# Altium schematic symbol library DCSupplyHubLib.SchLib: 133 symbols (part 1 of 2)
Pins are listed as number, name and electrical type; pins without a type are passive.

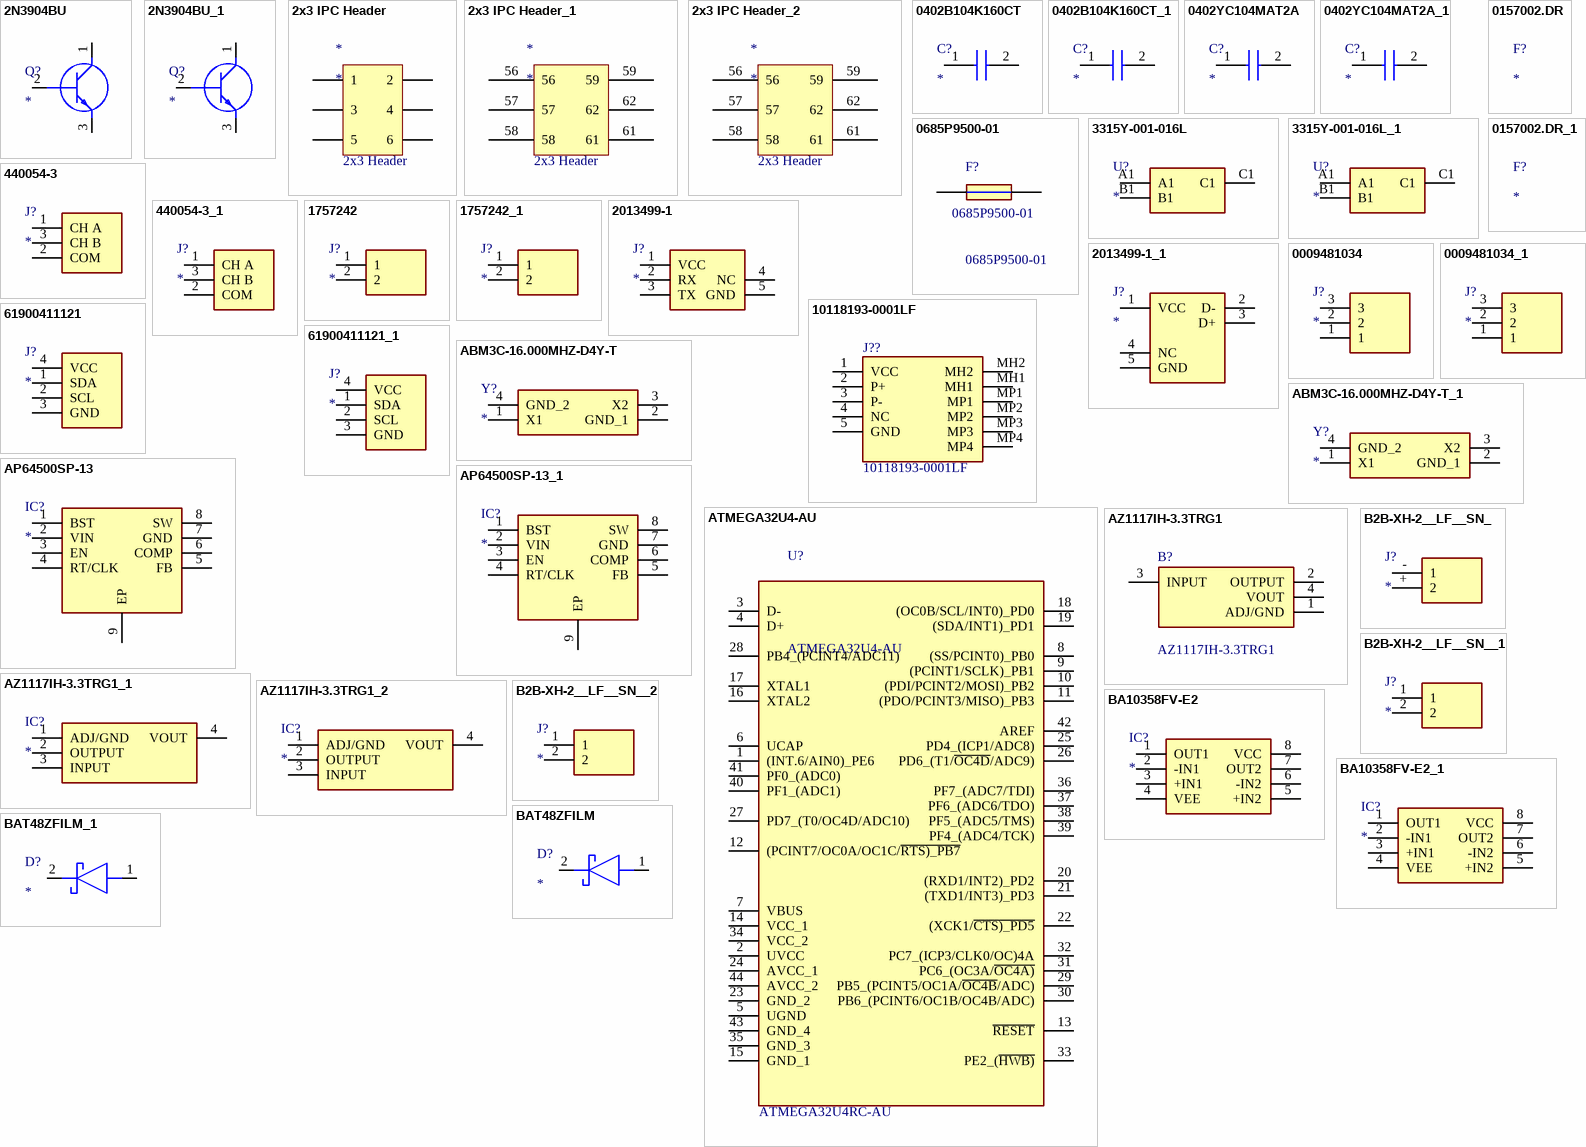
[diagram p0: symbols 2N3904BU to BAT48ZFILM_1]

## 2N3904BU
designator Q?
Transistor BJT NPN; Manufacturer_Name: onsemi; Manufacturer_Part_Number: 2N3904BU; Datasheet Link: http://www.onsemi.com/pub/Collateral/2N3904-D.pdf; Height: 5.33mm; Mouser Part Number: 512-2N3904BU; Mouser Price/Stock: https://www.mouser.co.uk/ProductDetail/onsemi-Fairchild/2N3904BU?qs=or4AE2qAS%252Bd0Jdpn%2F8ktKg%3D%3D; Arrow Part Number: 2N3904BU; Arrow Price/Stock: https://www.arrow.com/en/products/2n3904bu/on-semiconductor?region=europe
footprint LM431ACZ
pins: 1 C, 2 B, 3 E

## 2N3904BU_1
designator Q?
Transistor BJT NPN; Manufacturer_Name: onsemi; Manufacturer_Part_Number: 2N3904BU; Datasheet Link: http://www.onsemi.com/pub/Collateral/2N3904-D.pdf; Height: 5.33mm; Mouser Part Number: 512-2N3904BU; Mouser Price/Stock: https://www.mouser.co.uk/ProductDetail/onsemi-Fairchild/2N3904BU?qs=or4AE2qAS%252Bd0Jdpn%2F8ktKg%3D%3D; Arrow Part Number: 2N3904BU; Arrow Price/Stock: https://www.arrow.com/en/products/2n3904bu/on-semiconductor?region=europe
footprint LM431ACZ
pins: 1 C, 2 B, 3 E

## 2x3 IPC Header
designator *
pins: ?1 1, ?2 3, ?3 5, ?4 2, ?5 6, ?6 4
text: 2x3 Header

## 2x3 IPC Header_1
designator *
pins: 56, 57, 58, 59, 61, 62
text: 2x3 Header

## 2x3 IPC Header_2
designator *
pins: 56, 57, 58, 59, 61, 62
text: 2x3 Header

## 0402B104K160CT
designator C?
Capacitor; Manufacturer_Name: Walsin Technology Corporation; Manufacturer_Part_Number: 0402B104K160CT; Datasheet Link: https://componentsearchengine.com/Datasheets/2/0402B104K160CT.pdf; Height: 0.55mm; Mouser Part Number: 791-0402B104K160CT; Mouser Price/Stock: https://www.mouser.co.uk/ProductDetail/Walsin/0402B104K160CT?qs=fIkAfuXiAQJ1PS4dYXnTSQ%3D%3D
footprint CAPC1005X55N
pins: 1, 2

## 0402B104K160CT_1
designator C?
Capacitor; Manufacturer_Name: Walsin Technology Corporation; Manufacturer_Part_Number: 0402B104K160CT; Datasheet Link: https://componentsearchengine.com/Datasheets/2/0402B104K160CT.pdf; Height: 0.55mm; Mouser Part Number: 791-0402B104K160CT; Mouser Price/Stock: https://www.mouser.co.uk/ProductDetail/Walsin/0402B104K160CT?qs=fIkAfuXiAQJ1PS4dYXnTSQ%3D%3D
footprint CAPC1005X55N
pins: 1, 2

## 0402YC104MAT2A
designator C?
Capacitor; Manufacturer_Name: AVX; Manufacturer_Part_Number: 0402YC104MAT2A; Datasheet Link: http://www.mouser.com/catalog/supplier/library/pdf/AVXSurfaceMountCeramic.pdf; Height: 0.56mm; Mouser Part Number: 581-0402YC104MAT2A; Mouser Price/Stock: https://www.mouser.co.uk/ProductDetail/AVX/0402YC104MAT2A?qs=O2%2FeDh0sX9yiCaLwpXy1bw%3D%3D
footprint CAPC1005X56N
pins: 1, 2

## 0402YC104MAT2A_1
designator C?
Capacitor; Manufacturer_Name: AVX; Manufacturer_Part_Number: 0402YC104MAT2A; Datasheet Link: http://www.mouser.com/catalog/supplier/library/pdf/AVXSurfaceMountCeramic.pdf; Height: 0.56mm; Mouser Part Number: 581-0402YC104MAT2A; Mouser Price/Stock: https://www.mouser.co.uk/ProductDetail/AVX/0402YC104MAT2A?qs=O2%2FeDh0sX9yiCaLwpXy1bw%3D%3D
footprint CAPC1005X56N
pins: 1, 2

## 0685P9500-01
designator F?
Fuse Chip Fast Acting 50A 32V SMD Solder Pad 1206 3.2 X 1.58 X 0.63mm Ceramic T/R; Manufacturer_Name: Bel Circuit Protection; Geometry.Height: 0.83mm; Manufacturer_Part_Number: 0685P9500-01; Mouser Part Number: *; Mouser Price/Stock: *; Arrow Part Number: 0685P9500-01; Arrow Price/Stock: https://www.arrow.com/en/products/0685p9500-01/bel-group?region=europe; Datasheet Link: https://www.arrow.com/en/products/0685p9500-01/bel-group
footprint FUSC3216X83N
pins: 1, 2

## 3315Y-001-016L
designator U?
Undefined or Miscellaneous; Manufacturer_Name: Bourns; Manufacturer_Part_Number: 3315Y-001-016L; Datasheet Link: https://www.bourns.com/docs/Product-Datasheets/3315.pdf; Height: 13.34mm; Mouser Part Number: 652-3315Y-001-016L; Mouser Price/Stock: https://www.mouser.com/Search/Refine.aspx?Keyword=652-3315Y-001-016L; Arrow Part Number: 3315Y-001-016L; Arrow Price/Stock: https://www.arrow.com/en/products/3315y-001-016l/bourns
footprint 3315Y001016L
pins: A1, B1, C1

## 3315Y-001-016L_1
designator U?
Undefined or Miscellaneous; Manufacturer_Name: Bourns; Manufacturer_Part_Number: 3315Y-001-016L; Datasheet Link: https://www.bourns.com/docs/Product-Datasheets/3315.pdf; Height: 13.34mm; Mouser Part Number: 652-3315Y-001-016L; Mouser Price/Stock: https://www.mouser.com/Search/Refine.aspx?Keyword=652-3315Y-001-016L; Arrow Part Number: 3315Y-001-016L; Arrow Price/Stock: https://www.arrow.com/en/products/3315y-001-016l/bourns
footprint 3315Y001016L
pins: A1, B1, C1

## 0157002.DR
designator F?
Fuse; Manufacturer_Name: LITTELFUSE; Manufacturer_Part_Number: 0157002.DR; Datasheet Link: https://www.littelfuse.com/products/fuse-blocks-fuseholders-and-fuse-accessories/fuse-clips/~/media/electronics/datasheets/fuses/littelfuse_fuse_157_datasheet.pdf.pdf; Height: 4.03mm
footprint 0157002DR

## 0157002.DR_1
designator F?
Fuse; Manufacturer_Name: LITTELFUSE; Manufacturer_Part_Number: 0157002.DR; Datasheet Link: https://www.littelfuse.com/products/fuse-blocks-fuseholders-and-fuse-accessories/fuse-clips/~/media/electronics/datasheets/fuses/littelfuse_fuse_157_datasheet.pdf.pdf; Height: 4.03mm
footprint 0157002DR

## 440054-3
designator J?
Connector; Manufacturer_Name: TE Connectivity; Manufacturer_Part_Number: 440054-3; Datasheet Link: https://www.te.com/commerce/DocumentDelivery/DDEController?Action=srchrtrv&DocNm=440054&DocType=Customer+Drawing&DocLang=English&DocFormat=pdf&PartCntxt=440054-3; Height: 6.35mm; Mouser Part Number: 571-440054-3; Mouser Price/Stock: https://www.mouser.co.uk/ProductDetail/TE-Connectivity/440054-3?qs=JFPmFzpscO5ATC%252BmN3ka1Q%3D%3D; Arrow Part Number: 440054-3; Arrow Price/Stock: https://www.arrow.com/en/products/440054-3/te-connectivity?region=nac
footprint SHDR3W50P0X200_1X3_800X470X635P
pins: 1 CH A, 2 COM, 3 CH B

## 440054-3_1
designator J?
Connector; Manufacturer_Name: TE Connectivity; Manufacturer_Part_Number: 440054-3; Datasheet Link: https://www.te.com/commerce/DocumentDelivery/DDEController?Action=srchrtrv&DocNm=440054&DocType=Customer+Drawing&DocLang=English&DocFormat=pdf&PartCntxt=440054-3; Height: 6.35mm; Mouser Part Number: 571-440054-3; Mouser Price/Stock: https://www.mouser.co.uk/ProductDetail/TE-Connectivity/440054-3?qs=JFPmFzpscO5ATC%252BmN3ka1Q%3D%3D; Arrow Part Number: 440054-3; Arrow Price/Stock: https://www.arrow.com/en/products/440054-3/te-connectivity?region=nac
footprint SHDR3W50P0X200_1X3_800X470X635P
pins: 1 CH A, 2 COM, 3 CH B

## 1757242
designator J?
Connector; Manufacturer_Name: Phoenix Contact; Manufacturer_Part_Number: 1757242; Datasheet Link: http://www.phoenixcontact.com/de/produkte/1757242/pdf; Height: 8.72mm; Mouser Part Number: 651-1757242; Mouser Price/Stock: https://www.mouser.co.uk/ProductDetail/Phoenix-Contact/1757242?qs=uD%2FdkN7XIa3Ejiz9qDxlzw%3D%3D; Arrow Part Number: 1757242; Arrow Price/Stock: https://www.arrow.com/en/products/1757242/phoenix-contact?region=nac
footprint 1757242
pins: 1, 2

## 1757242_1
designator J?
Connector; Manufacturer_Name: Phoenix Contact; Manufacturer_Part_Number: 1757242; Datasheet Link: http://www.phoenixcontact.com/de/produkte/1757242/pdf; Height: 8.72mm; Mouser Part Number: 651-1757242; Mouser Price/Stock: https://www.mouser.co.uk/ProductDetail/Phoenix-Contact/1757242?qs=uD%2FdkN7XIa3Ejiz9qDxlzw%3D%3D; Arrow Part Number: 1757242; Arrow Price/Stock: https://www.arrow.com/en/products/1757242/phoenix-contact?region=nac
footprint 1757242
pins: 1, 2

## 2013499-1
designator J?
Connector; Manufacturer_Name: TE Connectivity; Manufacturer_Part_Number: 2013499-1; Datasheet Link: http://www.te.com/commerce/DocumentDelivery/DDEController?Action=showdoc&DocId=Customer+Drawing%7F2013499%7FB2%7Fpdf%7FEnglish%7FENG_CD_2013499_B2.pdf%7F2013499-1; Mouser Part Number: 571-2013499-1; Mouser Price/Stock: https://www.mouser.co.uk/ProductDetail/TE-Connectivity/2013499-1?qs=TL6PIybY3BOLK37GbUYdng%3D%3D; Arrow Part Number: 2013499-1; Arrow Price/Stock: https://www.arrow.com/en/products/2013499-1/te-connectivity?region=nac
footprint 2013499-1
pins: 1 VCC, 2 RX, 3 TX, 4 NC, 5 GND

## 2013499-1_1
designator J?
Connector; Manufacturer_Name: TE Connectivity; Manufacturer_Part_Number: 2013499-1; Datasheet Link: http://www.te.com/commerce/DocumentDelivery/DDEController?Action=showdoc&DocId=Customer+Drawing%7F2013499%7FB2%7Fpdf%7FEnglish%7FENG_CD_2013499_B2.pdf%7F2013499-1; Mouser Part Number: 571-2013499-1; Mouser Price/Stock: https://www.mouser.co.uk/ProductDetail/TE-Connectivity/2013499-1?qs=TL6PIybY3BOLK37GbUYdng%3D%3D; Arrow Part Number: 2013499-1; Arrow Price/Stock: https://www.arrow.com/en/products/2013499-1/te-connectivity?region=nac; ComponentLink1Description: Datasheet; ComponentLink1URL: https://cdn.amphenol-cs.com/media/wysiwyg/files/documentation/datasheet/inputoutput/io_usb_micro.pdf
footprint 2013499-1
pins: 1 VCC, 2 D-, 3 D+, 4 NC, 5 GND

## 0009481034
designator J?
Connector; Manufacturer_Name: Molex; Manufacturer_Part_Number: 0009481034; Datasheet Link: https://www.molex.com/pdm_docs/sd/009481034_sd.pdf; Height: 12.17mm; Mouser Part Number: N/A; Mouser Price/Stock: https://www.mouser.co.uk/ProductDetail/Molex/0009481034?qs=kF4zOt4%2FK7VvgYpahOC8cQ%3D%3D
footprint 0009481034
pins: 1, 2, 3

## 0009481034_1
designator J?
Connector; Manufacturer_Name: Molex; Manufacturer_Part_Number: 0009481034; Datasheet Link: https://www.molex.com/pdm_docs/sd/009481034_sd.pdf; Height: 12.17mm; Mouser Part Number: N/A; Mouser Price/Stock: https://www.mouser.co.uk/ProductDetail/Molex/0009481034?qs=kF4zOt4%2FK7VvgYpahOC8cQ%3D%3D
footprint 0009481034
pins: 1, 2, 3

## 10118193-0001LF
designator J??
Connector; Manufacturer_Name: AMPHENOL COMMUNICATION SOLUTIONS; Datasheet Link: https://cdn.amphenol-icc.com/media/wysiwyg/files/drawing/10118193.pdf; Height: 3.3mm; Manufacturer_Part_Number: 10118193-0001LF
footprint 101181930001LF
pins: 1 VCC, 2 P+, 3 P-, 4 NC, 5 GND, MH1, MH2, MP1, MP2, MP3, MP4

## 61900411121
designator J?
Connector; Manufacturer_Name: Wurth Elektronik; Manufacturer_Part_Number: 61900411121; Datasheet Link: https://katalog.we-online.de/em/datasheet/6190xx11121.pdf; Height: 11.75mm; Mouser Part Number: 710-61900411121; Mouser Price/Stock: https://www.mouser.co.uk/ProductDetail/Wurth-Elektronik/61900411121?qs=W%252B2sBeLta1Z79%252BA04MeSCQ%3D%3D
footprint SHDR4W64P0X254_1X4_1020X580X1175P
pins: 1 SDA, 2 SCL, 3 GND, 4 VCC

## 61900411121_1
designator J?
Connector; Manufacturer_Name: Wurth Elektronik; Manufacturer_Part_Number: 61900411121; Datasheet Link: https://katalog.we-online.de/em/datasheet/6190xx11121.pdf; Height: 11.75mm; Mouser Part Number: 710-61900411121; Mouser Price/Stock: https://www.mouser.co.uk/ProductDetail/Wurth-Elektronik/61900411121?qs=W%252B2sBeLta1Z79%252BA04MeSCQ%3D%3D
footprint SHDR4W64P0X254_1X4_1020X580X1175P
pins: 1 SDA, 2 SCL, 3 GND, 4 VCC

## ABM3C-16.000MHZ-D4Y-T
designator Y?
Crystal or Oscillator; Manufacturer_Name: ABRACON; Manufacturer_Part_Number: ABM3C-16.000MHZ-D4Y-T; Datasheet Link: https://abracon.com/Resonators/ABM3C.pdf; Height: 1.3mm; Mouser Part Number: 815-ABM3C-16-D4YT; Mouser Price/Stock: https://www.mouser.co.uk/ProductDetail/ABRACON/ABM3C-16.000MHZ-D4Y-T?qs=hxOQwdLlgeqfhg9X8n9k8A%3D%3D; Arrow Part Number: ABM3C-16.000MHZ-D4Y-T; Arrow Price/Stock: https://www.arrow.com/en/products/abm3c-16.000mhz-d4y-t/abracon?region=nac
footprint ABM3C16000MHZD4YT
pins: 1 X1, 2 GND_1, 3 X2, 4 GND_2

## ABM3C-16.000MHZ-D4Y-T_1
designator Y?
Crystal or Oscillator; Manufacturer_Name: ABRACON; Manufacturer_Part_Number: ABM3C-16.000MHZ-D4Y-T; Datasheet Link: https://abracon.com/Resonators/ABM3C.pdf; Height: 1.3mm; Mouser Part Number: 815-ABM3C-16-D4YT; Mouser Price/Stock: https://www.mouser.co.uk/ProductDetail/ABRACON/ABM3C-16.000MHZ-D4Y-T?qs=hxOQwdLlgeqfhg9X8n9k8A%3D%3D; Arrow Part Number: ABM3C-16.000MHZ-D4Y-T; Arrow Price/Stock: https://www.arrow.com/en/products/abm3c-16.000mhz-d4y-t/abracon?region=nac
footprint ABM3C16000MHZD4YT
pins: 1 X1, 2 GND_1, 3 X2, 4 GND_2

## AP64500SP-13
designator IC?
Integrated Circuit; Manufacturer_Name: Diodes Inc.; Manufacturer_Part_Number: AP64500SP-13; Datasheet Link: https://www.diodes.com/assets/Datasheets/AP64500.pdf; Height: 1.63mm; Mouser Part Number: 621-AP64500SP-13; Mouser Price/Stock: https://www.mouser.co.uk/ProductDetail/Diodes-Incorporated/AP64500SP-13?qs=P1JMDcb91o4IZHHwLYiVQA%3D%3D; Arrow Part Number: AP64500SP-13; Arrow Price/Stock: https://www.arrow.com/en/products/ap64500sp-13/diodes-incorporated?region=nac
footprint SOIC127P600X163-9N
pins: 1 BST, 2 VIN, 3 EN, 4 RT/CLK, 5 FB, 6 COMP, 7 GND, 8 SW, 9 EP

## AP64500SP-13_1
designator IC?
Integrated Circuit; Manufacturer_Name: Diodes Inc.; Manufacturer_Part_Number: AP64500SP-13; Datasheet Link: https://www.diodes.com/assets/Datasheets/AP64500.pdf; Height: 1.63mm; Mouser Part Number: 621-AP64500SP-13; Mouser Price/Stock: https://www.mouser.co.uk/ProductDetail/Diodes-Incorporated/AP64500SP-13?qs=P1JMDcb91o4IZHHwLYiVQA%3D%3D; Arrow Part Number: AP64500SP-13; Arrow Price/Stock: https://www.arrow.com/en/products/ap64500sp-13/diodes-incorporated?region=nac
footprint SOIC127P600X163-9N
pins: 1 BST, 2 VIN, 3 EN, 4 RT/CLK, 5 FB, 6 COMP, 7 GND, 8 SW, 9 EP

## ATMEGA32U4-AU
designator U?
MCU AVR 32K FLASH 16MHZ 44-TQFP Atmel ATMEGA32U4-AU, 8bit AVR Microcontroller, 16MHz, 1 kB, 32 kB Flash, 44-Pin TQFP; Manufacturer_Name: Microchip; Geometry.Height: 1.2mm; Manufacturer_Part_Number: ATMEGA32U4-AU; Mouser Part Number: 556-ATMEGA32U4-AU; Mouser Price/Stock: https://www.mouser.co.uk/ProductDetail/Microchip-Technology/ATMEGA32U4-AU?qs=SSucg2PyLi7mKWjHIsNJ3w%3D%3D; Arrow Part Number: ATMEGA32U4-AU; Arrow Price/Stock: https://www.arrow.com/en/products/atmega32u4-au/microchip-technology?region=nac; Datasheet Link: http://www.atmel.com/images/atmel-7766-8-bit-avr-atmega16u4-32u4_summary.pdf; ComponentLink1Description: Datasheet; ComponentLink1URL: https://ww1.microchip.com/downloads/en/DeviceDoc/Atmel-7766-8-bit-AVR-ATmega16U4-32U4_Datasheet.pdf
footprint QFP80P1200X1200X120-44N
pins: 1 (INT.6/AIN0)_PE6, 2 UVCC, 3 D-, 4 D+, 5 UGND, 6 UCAP, 7 VBUS, 8 (SS/PCINT0)_PB0, 9 (PCINT1/SCLK)_PB1, 10 (PDI/PCINT2/MOSI)_PB2, 11 (PDO/PCINT3/MISO)_PB3, 12 (PCINT7/OC0A/OC1C/~{RTS)_PB7}, 13 ~{RESET}, 14 VCC_1, 15 GND_1, 16 XTAL2, 17 XTAL1, 18 (OC0B/SCL/INT0)_PD0, 19 (SDA/INT1)_PD1, 20 (RXD1/INT2)_PD2, 21 (TXD1/INT3)_PD3, 22 (XCK1/~{CTS)_PD5}, 23 GND_2, 24 AVCC_1, 25 PD4_(ICP1/ADC8), 26 PD6_(T1/~{OC4D}/ADC9), 27 PD7_(T0/OC4D/ADC10), 28 PB4_(PCINT4/ADC11), 29 PB5_(PCINT5/OC1A/~{OC4B}/ADC), 30 PB6_(PCINT6/OC1B/OC4B/ADC), 31 PC6_(OC3A/~{OC4A)}, 32 PC7_(ICP3/CLK0/OC)4A, 33 PE2_(~{HWB)}, 34 VCC_2, 35 GND_3, 36 PF7_(ADC7/TDI), 37 PF6_(ADC6/TDO), 38 PF5_(ADC5/TMS), 39 PF4_(ADC4/TCK), 40 PF1_(ADC1), 41 PF0_(ADC0), 42 AREF, 43 GND_4, 44 AVCC_2
text: ATMEGA32U4RC-AU

## AZ1117IH-3.3TRG1
designator B?
LDO Voltage Regulators LDO BJT HiCurr 1.35A 10Hz to 10KHz; Manufacturer_Name: Diodes Inc.; Geometry.Height: 1.8mm; Manufacturer_Part_Number: AZ1117IH-3.3TRG1; Mouser Part Number: 621-AZ1117IH-3.3TRG1; Mouser Price/Stock: https://www.mouser.co.uk/ProductDetail/Diodes-Incorporated/AZ1117IH-3.3TRG1?qs=cpo3%2FpBou2jnS4SxLgAVoA%3D%3D; Arrow Part Number: AZ1117IH-3.3TRG1; Arrow Price/Stock: https://www.arrow.com/en/products/az1117ih-3.3trg1/diodes-incorporated?region=nac; Datasheet Link: http://www.mouser.com/ds/2/115/AZ1117-776390.pdf
footprint SOT230P700X180-4N
pins: 1 ADJ/GND, 2 OUTPUT, 3 INPUT, 4 VOUT

## AZ1117IH-3.3TRG1_1
designator IC?
Integrated Circuit; Manufacturer_Name: Diodes Inc.; Manufacturer_Part_Number: AZ1117IH-3.3TRG1; Datasheet Link: http://www.mouser.com/ds/2/115/AZ1117-776390.pdf; Height: 1.8mm; Mouser Part Number: 621-AZ1117IH-3.3TRG1; Mouser Price/Stock: https://www.mouser.co.uk/ProductDetail/Diodes-Incorporated/AZ1117IH-3.3TRG1?qs=cpo3%2FpBou2jnS4SxLgAVoA%3D%3D; Arrow Part Number: AZ1117IH-3.3TRG1; Arrow Price/Stock: https://www.arrow.com/en/products/az1117ih-3.3trg1/diodes-incorporated?region=nac
footprint SOT230P700X180-4N
pins: 1 ADJ/GND, 2 OUTPUT, 3 INPUT, 4 VOUT

## AZ1117IH-3.3TRG1_2
designator IC?
Integrated Circuit; Manufacturer_Name: Diodes Inc.; Manufacturer_Part_Number: AZ1117IH-3.3TRG1; Datasheet Link: http://www.mouser.com/ds/2/115/AZ1117-776390.pdf; Height: 1.8mm; Mouser Part Number: 621-AZ1117IH-3.3TRG1; Mouser Price/Stock: https://www.mouser.co.uk/ProductDetail/Diodes-Incorporated/AZ1117IH-3.3TRG1?qs=cpo3%2FpBou2jnS4SxLgAVoA%3D%3D; Arrow Part Number: AZ1117IH-3.3TRG1; Arrow Price/Stock: https://www.arrow.com/en/products/az1117ih-3.3trg1/diodes-incorporated?region=nac
footprint SOT230P700X180-4N
pins: 1 ADJ/GND, 2 OUTPUT, 3 INPUT, 4 VOUT

## B2B-XH-2__LF__SN_
designator J?
Connector; Manufacturer_Name: JST (JAPAN SOLDERLESS TERMINALS); Manufacturer_Part_Number: B2B-XH-2 (LF)(SN); Datasheet Link: http://uk.rs-online.com/web/p/products/1755297; Height: 7mm; Arrow Part Number: B2B-XH-2 (LF)(SN); Arrow Price/Stock: https://www.arrow.com/en/products/b2b-xh-2-lf-sn/jst-manufacturing?region=europe
footprint B2BXH2LFSN
pins: + 2, - 1

## B2B-XH-2__LF__SN__1
designator J?
Connector; Manufacturer_Name: JST (JAPAN SOLDERLESS TERMINALS); Manufacturer_Part_Number: B2B-XH-2 (LF)(SN); Datasheet Link: http://uk.rs-online.com/web/p/products/1755297; Height: 7mm; Arrow Part Number: B2B-XH-2 (LF)(SN); Arrow Price/Stock: https://www.arrow.com/en/products/b2b-xh-2-lf-sn/jst-manufacturing?region=europe
footprint B2BXH2LFSN
pins: 1, 2

## B2B-XH-2__LF__SN__2
designator J?
Connector; Manufacturer_Name: JST (JAPAN SOLDERLESS TERMINALS); Manufacturer_Part_Number: B2B-XH-2 (LF)(SN); Datasheet Link: http://uk.rs-online.com/web/p/products/1755297; Height: 7mm; Arrow Part Number: B2B-XH-2 (LF)(SN); Arrow Price/Stock: https://www.arrow.com/en/products/b2b-xh-2-lf-sn/jst-manufacturing?region=europe
footprint B2BXH2LFSN
pins: 1, 2

## BA10358FV-E2
designator IC?
Integrated Circuit; Manufacturer_Name: ROHM Semiconductor; Manufacturer_Part_Number: BA10358FV-E2; Datasheet Link: http://rohmfs.rohm.com/en/products/databook/datasheet/ic/amp_linear/opamp/ba10358-e.pdf; Height: 1.35mm; Mouser Part Number: 755-BA10358FV-E2; Mouser Price/Stock: https://www.mouser.co.uk/ProductDetail/ROHM-Semiconductor/BA10358FV-E2?qs=4kLU8WoGk0vIfU2HGOTqYg%3D%3D
footprint SOP65P640X135-8N
pins: 1 OUT1, 2 -IN1, 3 +IN1, 4 VEE, 5 +IN2, 6 -IN2, 7 OUT2, 8 VCC

## BA10358FV-E2_1
designator IC?
Integrated Circuit; Manufacturer_Name: ROHM Semiconductor; Manufacturer_Part_Number: BA10358FV-E2; Datasheet Link: http://rohmfs.rohm.com/en/products/databook/datasheet/ic/amp_linear/opamp/ba10358-e.pdf; Height: 1.35mm; Mouser Part Number: 755-BA10358FV-E2; Mouser Price/Stock: https://www.mouser.co.uk/ProductDetail/ROHM-Semiconductor/BA10358FV-E2?qs=4kLU8WoGk0vIfU2HGOTqYg%3D%3D
footprint SOP65P640X135-8N
pins: 1 OUT1, 2 -IN1, 3 +IN1, 4 VEE, 5 +IN2, 6 -IN2, 7 OUT2, 8 VCC

## BAT48ZFILM
designator D?
Schottky Diode; Manufacturer_Name: STMicroelectronics; Manufacturer_Part_Number: BAT48ZFILM; Datasheet Link: https://altium.componentsearchengine.com/Datasheets/2/BAT48ZFILM.pdf; Height: 1.45mm; Mouser Part Number: 511-BAT48ZFILM; Mouser Price/Stock: https://www.mouser.co.uk/ProductDetail/STMicroelectronics/BAT48ZFILM?qs=jZi1jxfVU97drMZAC9JWhA%3D%3D; Arrow Part Number: BAT48ZFILM; Arrow Price/Stock: https://www.arrow.com/en/products/bat48zfilm/stmicroelectronics?region=europe
footprint BAT48ZFILM
pins: 1 A, 2 K

## BAT48ZFILM_1
designator D?
Schottky Diode; Manufacturer_Name: STMicroelectronics; Manufacturer_Part_Number: BAT48ZFILM; Datasheet Link: https://altium.componentsearchengine.com/Datasheets/2/BAT48ZFILM.pdf; Height: 1.45mm; Mouser Part Number: 511-BAT48ZFILM; Mouser Price/Stock: https://www.mouser.co.uk/ProductDetail/STMicroelectronics/BAT48ZFILM?qs=jZi1jxfVU97drMZAC9JWhA%3D%3D; Arrow Part Number: BAT48ZFILM; Arrow Price/Stock: https://www.arrow.com/en/products/bat48zfilm/stmicroelectronics?region=europe
footprint BAT48ZFILM
pins: 1 A, 2 K

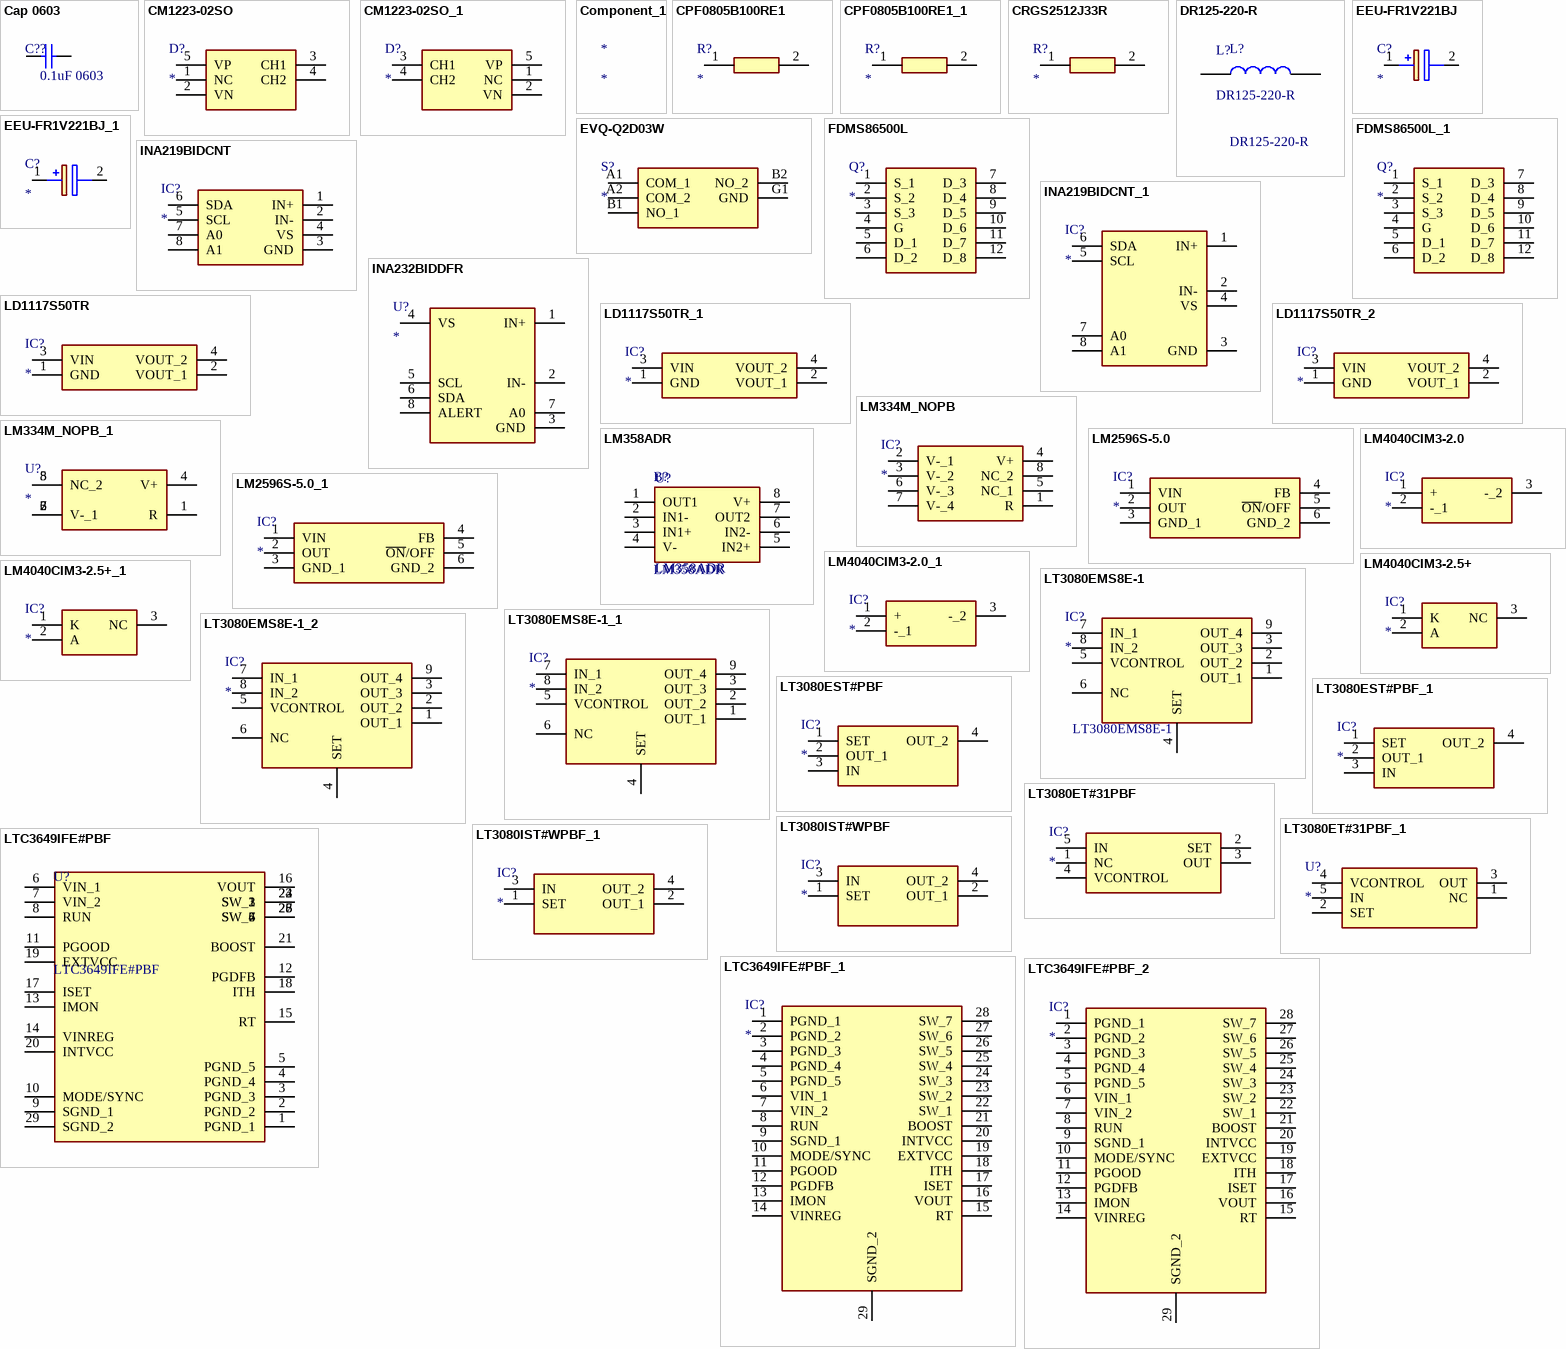
[diagram p1: symbols Cap 0603 to LTC3649IFE#PBF_2]

## Cap 0603
designator C??  value 0.1uF 0603
Capacitor; Published: 8-Jun-2000; LatestRevisionDate: 17-Jul-2002; LatestRevisionNote: Re-released for DXP Platform.; PackageReference: RAD-0.3; Publisher: Altium Limited; PackageDescription: Radial Cap, Thru-Hole; 2 Leads; 0.3 in Pin Spacing
footprint Cap_0603 (Footprint not found)
simulation model CAP (Capacitor)
signal-integrity model Cap
pins: 1, 2

## CM1223-02SO
designator D?
TVS Diode (Uni-directional); Manufacturer_Name: onsemi; Manufacturer_Part_Number: CM1223-02SO; Datasheet Link: https://www.onsemi.com/pdf/datasheet/cm1223-d.pdf; Height: 1.45mm; Mouser Part Number: 748-CM1223-02SO; Mouser Price/Stock: https://www.mouser.co.uk/ProductDetail/onsemi/CM1223-02SO?qs=lLuKAerq7nnvVg3rEtIojA%3D%3D
footprint SOT95P280X145-5N
pins: 1 NC, 2 VN, 3 CH1, 4 CH2, 5 VP

## CM1223-02SO_1
designator D?
TVS Diode (Uni-directional); Manufacturer_Name: onsemi; Manufacturer_Part_Number: CM1223-02SO; Datasheet Link: https://www.onsemi.com/pdf/datasheet/cm1223-d.pdf; Height: 1.45mm; Mouser Part Number: 748-CM1223-02SO; Mouser Price/Stock: https://www.mouser.co.uk/ProductDetail/onsemi/CM1223-02SO?qs=lLuKAerq7nnvVg3rEtIojA%3D%3D; ComponentLink1Description: Datasheet; ComponentLink1URL: https://www.onsemi.com/pdf/datasheet/cm1223-d.pdf
footprint SOT95P280X145-5N
pins: 1 NC, 2 VN, 3 CH1, 4 CH2, 5 VP

## Component_1
designator *

## CPF0805B100RE1
designator R?
Resistor; Manufacturer_Name: TE Connectivity; Manufacturer_Part_Number: CPF0805B100RE1; Datasheet Link: http://docs-europe.electrocomponents.com/webdocs/13d1/0900766b813d116f.pdf; Height: 0.65mm; Mouser Part Number: 279-CPF0805B100RE1; Mouser Price/Stock: https://www.mouser.co.uk/ProductDetail/TE-Connectivity-Holsworthy/CPF0805B100RE1?qs=9ylKvqdyudkCWLPT1QvLZQ%3D%3D; Arrow Part Number: CPF0805B100RE1; Arrow Price/Stock: https://www.arrow.com/en/products/cpf0805b100re1/te-connectivity?region=nac
footprint RESC2012X65N
pins: 1, 2

## CPF0805B100RE1_1
designator R?
Resistor; Manufacturer_Name: TE Connectivity; Manufacturer_Part_Number: CPF0805B100RE1; Datasheet Link: http://docs-europe.electrocomponents.com/webdocs/13d1/0900766b813d116f.pdf; Height: 0.65mm; Mouser Part Number: 279-CPF0805B100RE1; Mouser Price/Stock: https://www.mouser.co.uk/ProductDetail/TE-Connectivity-Holsworthy/CPF0805B100RE1?qs=9ylKvqdyudkCWLPT1QvLZQ%3D%3D; Arrow Part Number: CPF0805B100RE1; Arrow Price/Stock: https://www.arrow.com/en/products/cpf0805b100re1/te-connectivity?region=nac
footprint RESC2012X65N
pins: 1, 2

## CRGS2512J33R
designator R?
Resistor; Manufacturer_Name: TE Connectivity; Manufacturer_Part_Number: CRGS2512J33R; Description: TE Connectivity CRGS Series Thick Film Anti-surge Resistor 2512 Case 33 +/-5% 1.5W +/-100ppm/C; Datasheet Link: http://www.te.com/commerce/DocumentDelivery/DDEController?Action=showdoc&DocId=Data+Sheet%7F9-1773463-8%7FB%7Fpdf%7FEnglish%7FENG_DS_9-1773463-8_B.pdf%7F3-2176251-0; Height: 0.65mm
footprint RESC6432X65N
pins: 1, 2

## DR125-220-R
designator L?
Fixed Inductors 22uH 4.7A 0.0396ohms; Manufacturer_Name: Eaton; Geometry.Height: 6mm; Manufacturer_Part_Number: DR125-220-R; Mouser Part Number: 704-DR125-220-R; Mouser Price/Stock: https://www.mouser.co.uk/ProductDetail/Coiltronics-Eaton/DR125-220-R?qs=yzwxPInThYRujmASWbLJEw%3D%3D; Arrow Part Number: DR125-220-R; Arrow Price/Stock: https://www.arrow.com/en/products/dr125-220-r/eaton?region=nac; Datasheet Link: https://componentsearchengine.com/Datasheets/1/DR125-220-R.pdf
footprint INDPM125125X600N
pins: 1, 2

## EEU-FR1V221BJ
designator C?
Capacitor Polarised; Manufacturer_Name: Panasonic; Manufacturer_Part_Number: EEU-FR1V221BJ; Datasheet Link: https://industrial.panasonic.com/cdbs/www-data/pdf/RDF0000/ABA0000C1259.pdf; Height: 13mm; Mouser Part Number: 667-EEU-FR1V221BJ; Mouser Price/Stock: https://www.mouser.co.uk/ProductDetail/Panasonic/EEU-FR1V221BJ?qs=f9yNj16SXrJlLopqn4QBkw%3D%3D; Arrow Part Number: EEU-FR1V221BJ; Arrow Price/Stock: https://www.arrow.com/en/products/eeufr1v221bj/panasonic?region=nac
footprint CAPPRD350W65D800H1300
pins: 1 +, 2 -

## EEU-FR1V221BJ_1
designator C?
Capacitor Polarised; Manufacturer_Name: Panasonic; Manufacturer_Part_Number: EEU-FR1V221BJ; Datasheet Link: https://industrial.panasonic.com/cdbs/www-data/pdf/RDF0000/ABA0000C1259.pdf; Height: 13mm; Mouser Part Number: 667-EEU-FR1V221BJ; Mouser Price/Stock: https://www.mouser.co.uk/ProductDetail/Panasonic/EEU-FR1V221BJ?qs=f9yNj16SXrJlLopqn4QBkw%3D%3D; Arrow Part Number: EEU-FR1V221BJ; Arrow Price/Stock: https://www.arrow.com/en/products/eeufr1v221bj/panasonic?region=nac
footprint CAPPRD350W65D800H1300
pins: 1 +, 2 -

## EVQ-Q2D03W
designator S?
Switch; Manufacturer_Name: Panasonic; Manufacturer_Part_Number: EVQ-Q2D03W; Datasheet Link: https://www3.panasonic.biz/ac/cdn/e/control/switch/light-touch/catalog/sw_lt_eng_6s_th.pdf; Height: 3.3mm; Mouser Part Number: 667-EVQ-Q2D03W; Mouser Price/Stock: https://www.mouser.co.uk/ProductDetail/Panasonic/EVQ-Q2D03W?qs=WwqriLBepZtPZ3A1Jybl6w%3D%3D; Arrow Part Number: EVQ-Q2D03W; Arrow Price/Stock: https://www.arrow.com/en/products/evqq2d03w/panasonic
footprint EVQQ2D03W
pins: A1 COM_1, A2 COM_2, B1 NO_1, B2 NO_2, G1 GND

## FDMS86500L
designator Q?
MOSFET (N-Channel); Manufacturer_Name: onsemi; Manufacturer_Part_Number: FDMS86500L; Datasheet Link: https://www.onsemi.com/pub/Collateral/FDMS86500L-D.PDF; Height: 1.1mm; Mouser Part Number: 512-FDMS86500L; Mouser Price/Stock: https://www.mouser.co.uk/ProductDetail/onsemi-Fairchild/FDMS86500L?qs=unG0t268Z%2FHjzOt5KnlSWw%3D%3D; Arrow Part Number: FDMS86500L; Arrow Price/Stock: https://www.arrow.com/en/products/fdms86500l/on-semiconductor
footprint FDMS86500L
pins: 1 S_1, 2 S_2, 3 S_3, 4 G, 5 D_1, 6 D_2, 7 D_3, 8 D_4, 9 D_5, 10 D_6, 11 D_7, 12 D_8

## FDMS86500L_1
designator Q?
MOSFET (N-Channel); Manufacturer_Name: onsemi; Manufacturer_Part_Number: FDMS86500L; Datasheet Link: https://www.onsemi.com/pub/Collateral/FDMS86500L-D.PDF; Height: 1.1mm; Mouser Part Number: 512-FDMS86500L; Mouser Price/Stock: https://www.mouser.co.uk/ProductDetail/onsemi-Fairchild/FDMS86500L?qs=unG0t268Z%2FHjzOt5KnlSWw%3D%3D; Arrow Part Number: FDMS86500L; Arrow Price/Stock: https://www.arrow.com/en/products/fdms86500l/on-semiconductor
footprint FDMS86500L
pins: 1 S_1, 2 S_2, 3 S_3, 4 G, 5 D_1, 6 D_2, 7 D_3, 8 D_4, 9 D_5, 10 D_6, 11 D_7, 12 D_8

## INA219BIDCNT
designator IC?
Integrated Circuit; Manufacturer_Name: Texas Instruments; Manufacturer_Part_Number: INA219BIDCNT; Datasheet Link: http://www.ti.com/lit/ds/symlink/ina219.pdf; Height: 1.45mm; Mouser Part Number: 595-INA219BIDCNT; Mouser Price/Stock: https://www.mouser.co.uk/ProductDetail/Texas-Instruments/INA219BIDCNT?qs=1WmUhT%2FVMIMmEKxVjzYikA%3D%3D; Arrow Part Number: INA219BIDCNT; Arrow Price/Stock: https://www.arrow.com/en/products/ina219bidcnt/texas-instruments?region=nac
footprint SOT65P280X145-8N
pins: 1 IN+, 2 IN-, 3 GND, 4 VS, 5 SCL, 6 SDA, 7 A0, 8 A1

## INA219BIDCNT_1
designator IC?
Integrated Circuit; Manufacturer_Name: Texas Instruments; Manufacturer_Part_Number: INA219BIDCNT; Datasheet Link: http://www.ti.com/lit/ds/symlink/ina219.pdf; Height: 1.45mm; Mouser Part Number: 595-INA219BIDCNT; Mouser Price/Stock: https://www.mouser.co.uk/ProductDetail/Texas-Instruments/INA219BIDCNT?qs=1WmUhT%2FVMIMmEKxVjzYikA%3D%3D; Arrow Part Number: INA219BIDCNT; Arrow Price/Stock: https://www.arrow.com/en/products/ina219bidcnt/texas-instruments?region=nac
footprint SOT65P280X145-8N
pins: 1 IN+, 2 IN-, 3 GND, 4 VS, 5 SCL, 6 SDA, 7 A0, 8 A1

## INA232BIDDFR
designator U?
INA232 48-V, 16-Bit, Current, Voltage, and Power Monitor With an I2C Interface; Manufacturer_Name: Texas Instruments; Manufacturer_Part_Number: INA232BIDDFR; Datasheet Link: https://www.ti.com/lit/ds/symlink/ina232.pdf?ts=1699312390876&ref_url=https%253A%252F%252Fwww.ti.com%252Fproduct%252FINA232%253Futm_source%253Dgoogle%2526utm_medium%253Dcpc%2526utm_campaign%253Dasc-null-null-GPN_EN-cpc-pf-google-wwe_cons%2526utm_content%2; Height: 1.1mm; Mouser Part Number: 595-INA232BIDDFR; Mouser Price/Stock: https://www.mouser.co.uk/ProductDetail/Texas-Instruments/INA232BIDDFR?qs=17ckDYBRdelmwH1njZdaQw%3D%3D; ComponentLink1Description: Datahseet; ComponentLink1URL: https://www.ti.com/lit/ds/symlink/ina232.pdf?HQS=dis-mous-null-mousermode-dsf-pf-null-wwe&ts=1700934645658&ref_url=https%253A%252F%252Fwww.mouser.com%252F
footprint SOT65P280X110-8N
pins: 1 IN+, 2 IN-, 3 GND, 4 VS, 5 SCL, 6 SDA, 7 A0, 8 ALERT

## LD1117S50TR
designator IC?
Integrated Circuit; Manufacturer_Name: STMicroelectronics; Manufacturer_Part_Number: LD1117S50TR; Datasheet Link: https://datasheet.lcsc.com/szlcsc/STMicroelectronics-LD1117S50TR_C134077.pdf; Height: 1.9mm; Mouser Part Number: 511-LD1117S50; Mouser Price/Stock: https://www.mouser.co.uk/ProductDetail/STMicroelectronics/LD1117S50TR?qs=eQN2Ig5lfEwsh0kTXN%2FkTg%3D%3D; Arrow Part Number: LD1117S50TR; Arrow Price/Stock: https://www.arrow.com/en/products/ld1117s50tr/stmicroelectronics?region=nac
footprint SOT230P700X190-4N
pins: 1 GND, 2 VOUT_1, 3 VIN, 4 VOUT_2

## LD1117S50TR_1
designator IC?
Integrated Circuit; Manufacturer_Name: STMicroelectronics; Manufacturer_Part_Number: LD1117S50TR; Datasheet Link: https://datasheet.lcsc.com/szlcsc/STMicroelectronics-LD1117S50TR_C134077.pdf; Height: 1.9mm; Mouser Part Number: 511-LD1117S50; Mouser Price/Stock: https://www.mouser.co.uk/ProductDetail/STMicroelectronics/LD1117S50TR?qs=eQN2Ig5lfEwsh0kTXN%2FkTg%3D%3D; Arrow Part Number: LD1117S50TR; Arrow Price/Stock: https://www.arrow.com/en/products/ld1117s50tr/stmicroelectronics?region=nac
footprint SOT230P700X190-4N
pins: 1 GND, 2 VOUT_1, 3 VIN, 4 VOUT_2

## LD1117S50TR_2
designator IC?
Integrated Circuit; Manufacturer_Name: STMicroelectronics; Manufacturer_Part_Number: LD1117S50TR; Datasheet Link: https://datasheet.lcsc.com/szlcsc/STMicroelectronics-LD1117S50TR_C134077.pdf; Height: 1.9mm; Mouser Part Number: 511-LD1117S50; Mouser Price/Stock: https://www.mouser.co.uk/ProductDetail/STMicroelectronics/LD1117S50TR?qs=eQN2Ig5lfEwsh0kTXN%2FkTg%3D%3D; Arrow Part Number: LD1117S50TR; Arrow Price/Stock: https://www.arrow.com/en/products/ld1117s50tr/stmicroelectronics?region=nac
footprint SOT230P700X190-4N
pins: 1 GND, 2 VOUT_1, 3 VIN, 4 VOUT_2

## LM334M_NOPB
designator IC?
Integrated Circuit; Manufacturer_Name: Texas Instruments; Manufacturer_Part_Number: LM334M/NOPB; Datasheet Link: http://www.ti.com/lit/ds/symlink/lm334.pdf; Height: 1.75mm; Mouser Part Number: 926-LM334M/NOPB; Mouser Price/Stock: https://www.mouser.co.uk/ProductDetail/Texas-Instruments/LM334M-NOPB?qs=X1J7HmVL2ZGVqL5LPYoDQw%3D%3D; Arrow Part Number: LM334M/NOPB; Arrow Price/Stock: https://www.arrow.com/en/products/lm334mnopb/texas-instruments?region=nac
footprint SOIC127P600X175-8N
pins: 1 R, 2 V-_1, 3 V-_2, 4 V+, 5 NC_1, 6 V-_3, 7 V-_4, 8 NC_2

## LM334M_NOPB_1
designator U?
3-Terminal Adjustable Current Sources; Manufacturer_Name: Texas Instruments; Manufacturer_Part_Number: LM334M/NOPB; Datasheet Link: http://www.ti.com/lit/ds/symlink/lm334.pdf; Height: 1.75mm; Mouser Part Number: 926-LM334M/NOPB; Mouser Price/Stock: https://www.mouser.co.uk/ProductDetail/Texas-Instruments/LM334M-NOPB?qs=X1J7HmVL2ZGVqL5LPYoDQw%3D%3D; Arrow Part Number: LM334M/NOPB; Arrow Price/Stock: https://www.arrow.com/en/products/lm334mnopb/texas-instruments?region=nac; ComponentLink1Description: Datasheet; ComponentLink1URL: https://www.ti.com/lit/ds/symlink/lm134.pdf?ts=1700986476311&ref_url=https%253A%252F%252Fwww.google.com%252F
footprint SOIC127P600X175-8N
pins: 1 R, 2 V-_1, 3 V-_2, 4 V+, 5 NC_1, 6 V-_3, 7 V-_4, 8 NC_2

## LM358ADR
designator B?
LM358ADR, Dual Operational Amplifier 0.7MHz 5 to 28V, 8-Pin SOIC; Manufacturer_Name: Texas Instruments; Geometry.Height: 1.75mm; Manufacturer_Part_Number: LM358ADR; Mouser Part Number: 595-LM358ADR; Mouser Price/Stock: https://www.mouser.co.uk/ProductDetail/Texas-Instruments/LM358ADR?qs=1K8%2FAQHn5WQAbsqcc50i8g%3D%3D; Arrow Part Number: LM358ADR; Arrow Price/Stock: https://www.arrow.com/en/products/lm358adr/texas-instruments?region=nac; Datasheet Link: http://www.ti.com/lit/ds/symlink/lm358a.pdf
footprint SOIC127P600X175-8N
pins: 1 OUT1, 2 IN1-, 3 IN1+, 4 V-, 5 IN2+, 6 IN2-, 7 OUT2, 8 V+
text: U?

## LM2596S-5.0
designator IC?
Integrated Circuit; Manufacturer_Name: Texas Instruments; Manufacturer_Part_Number: LM2596S-5.0; Datasheet Link: https://www.ti.com/lit/gpn/LM2596; Mouser Part Number: 926-LM2596S-50; Mouser Price/Stock: https://www.mouser.co.uk/ProductDetail/Texas-Instruments/LM2596S-5.0?qs=X1J7HmVL2ZGcOr96VNr%252B%2Fw%3D%3D; Arrow Part Number: LM2596S-5.0; Arrow Price/Stock: https://www.arrow.com/en/products/lm2596s-5.0/texas-instruments?region=nac
footprint KTT0005B
pins: 1 VIN, 2 OUT, 3 GND_1, 4 FB, 5 ~{ON}/OFF, 6 GND_2

## LM2596S-5.0_1
designator IC?
Integrated Circuit; Manufacturer_Name: Texas Instruments; Manufacturer_Part_Number: LM2596S-5.0; Datasheet Link: https://www.ti.com/lit/gpn/LM2596; Mouser Part Number: 926-LM2596S-50; Mouser Price/Stock: https://www.mouser.co.uk/ProductDetail/Texas-Instruments/LM2596S-5.0?qs=X1J7HmVL2ZGcOr96VNr%252B%2Fw%3D%3D; Arrow Part Number: LM2596S-5.0; Arrow Price/Stock: https://www.arrow.com/en/products/lm2596s-5.0/texas-instruments?region=nac
footprint KTT0005B
pins: 1 VIN, 2 OUT, 3 GND_1, 4 FB, 5 ~{ON}/OFF, 6 GND_2

## LM4040CIM3-2.0
designator IC?
Integrated Circuit; Manufacturer_Name: Texas Instruments; Manufacturer_Part_Number: LM4040CIM3-2.0; Datasheet Link: https://www.ti.com/lit/gpn/lm4040-n; Height: 1.12mm; Arrow Part Number: LM4040CIM3-2.0; Arrow Price/Stock: https://www.arrow.com/en/products/lm4040cim3-2.0/texas-instruments
footprint SOT95P237X112-3N
pins: 1 +, 2 -_1, 3 -_2

## LM4040CIM3-2.0_1
designator IC?
Integrated Circuit; Manufacturer_Name: Texas Instruments; Manufacturer_Part_Number: LM4040CIM3-2.0; Datasheet Link: https://www.ti.com/lit/gpn/lm4040-n; Height: 1.12mm; Arrow Part Number: LM4040CIM3-2.0; Arrow Price/Stock: https://www.arrow.com/en/products/lm4040cim3-2.0/texas-instruments
footprint SOT95P237X112-3N
pins: 1 +, 2 -_1, 3 -_2

## LM4040CIM3-2.5+
designator IC?
Integrated Circuit; Manufacturer_Name: Texas Instruments; Manufacturer_Part_Number: LM4040CIM3-2.5+; Datasheet Link: https://www.ti.com/lit/ds/symlink/lm4040-n.pdf?ts=1628928376447&ref_url=https%253A%252F%252Fwww.google.com%252F; Height: 1.12mm; Mouser Part Number: N/A; Mouser Price/Stock: https://www.mouser.com/Search/Refine.aspx?Keyword=N%2FA
footprint SOT95P237X112-3N
pins: 1 K, 2 A, 3 NC

## LM4040CIM3-2.5+_1
designator IC?
Integrated Circuit; Manufacturer_Name: Texas Instruments; Manufacturer_Part_Number: LM4040CIM3-2.5+; Datasheet Link: https://www.ti.com/lit/ds/symlink/lm4040-n.pdf?ts=1628928376447&ref_url=https%253A%252F%252Fwww.google.com%252F; Height: 1.12mm; Mouser Part Number: N/A; Mouser Price/Stock: https://www.mouser.com/Search/Refine.aspx?Keyword=N%2FA
footprint SOT95P237X112-3N
pins: 1 K, 2 A, 3 NC

## LT3080EMS8E-1
designator IC?
Integrated Circuit; Manufacturer_Name: Analog Devices; Manufacturer_Part_Number: LT3080EMS8E-1; Datasheet Link: https://www.arrow.com/en/products/lt3080ems8e-1/analog-devices; Height: 1.1mm; Arrow Part Number: LT3080EMS8E-1; Arrow Price/Stock: https://www.arrow.com/en/products/lt3080ems8e-1/analog-devices?region=nac
footprint SOP65P490X110-9N
pins: 1 OUT_1, 2 OUT_2, 3 OUT_3, 4 SET, 5 VCONTROL, 6 NC, 7 IN_1, 8 IN_2, 9 OUT_4

## LT3080EMS8E-1_1
designator IC?
Integrated Circuit; Manufacturer_Name: Analog Devices; Manufacturer_Part_Number: LT3080EMS8E-1; Datasheet Link: https://www.arrow.com/en/products/lt3080ems8e-1/analog-devices; Height: 1.1mm; Arrow Part Number: LT3080EMS8E-1; Arrow Price/Stock: https://www.arrow.com/en/products/lt3080ems8e-1/analog-devices?region=nac
footprint SOP65P490X110-9N
pins: 1 OUT_1, 2 OUT_2, 3 OUT_3, 4 SET, 5 VCONTROL, 6 NC, 7 IN_1, 8 IN_2, 9 OUT_4

## LT3080EMS8E-1_2
designator IC?
Integrated Circuit; Manufacturer_Name: Analog Devices; Manufacturer_Part_Number: LT3080EMS8E-1; Datasheet Link: https://www.arrow.com/en/products/lt3080ems8e-1/analog-devices; Height: 1.1mm; Arrow Part Number: LT3080EMS8E-1; Arrow Price/Stock: https://www.arrow.com/en/products/lt3080ems8e-1/analog-devices?region=nac
footprint SOP65P490X110-9N
pins: 1 OUT_1, 2 OUT_2, 3 OUT_3, 4 SET, 5 VCONTROL, 6 NC, 7 IN_1, 8 IN_2, 9 OUT_4

## LT3080EST#PBF
designator IC?
Integrated Circuit; Manufacturer_Name: Analog Devices; Manufacturer_Part_Number: LT3080EST#PBF; Datasheet Link: https://datasheet.datasheetarchive.com/originals/distributors/SFDatasheet-4/sf-00091083.pdf; Height: 1.8mm; Mouser Part Number: 584-LT3080EST#PBF; Mouser Price/Stock: https://www.mouser.co.uk/ProductDetail/Analog-Devices/LT3080ESTPBF?qs=hVkxg5c3xu%2FJeI%252Bj6t0xvA%3D%3D; Arrow Part Number: LT3080EST#PBF; Arrow Price/Stock: https://www.arrow.com/en/products/lt3080estpbf/linear-technology
footprint SOT230P700X180-4N
pins: 1 SET, 2 OUT_1, 3 IN, 4 OUT_2

## LT3080EST#PBF_1
designator IC?
Integrated Circuit; Manufacturer_Name: Analog Devices; Manufacturer_Part_Number: LT3080EST#PBF; Datasheet Link: https://datasheet.datasheetarchive.com/originals/distributors/SFDatasheet-4/sf-00091083.pdf; Height: 1.8mm; Mouser Part Number: 584-LT3080EST#PBF; Mouser Price/Stock: https://www.mouser.co.uk/ProductDetail/Analog-Devices/LT3080ESTPBF?qs=hVkxg5c3xu%2FJeI%252Bj6t0xvA%3D%3D; Arrow Part Number: LT3080EST#PBF; Arrow Price/Stock: https://www.arrow.com/en/products/lt3080estpbf/linear-technology
footprint SOT230P700X180-4N
pins: 1 SET, 2 OUT_1, 3 IN, 4 OUT_2

## LT3080ET#31PBF
designator IC?
Integrated Circuit; Manufacturer_Name: Analog Devices; Manufacturer_Part_Number: LT3080ET#31PBF; Datasheet Link: https://www.analog.com/media/en/technical-documentation/data-sheets/3080fc.pdf; Height: 15.748mm; Mouser Part Number: 584-LT3080ET#31PBF; Mouser Price/Stock: https://www.mouser.co.uk/ProductDetail/Analog-Devices/LT3080ET31PBF?qs=hVkxg5c3xu%252BqtsodQH9qig%3D%3D; Arrow Part Number: LT3080ET#31PBF; Arrow Price/Stock: https://www.arrow.com/en/products/lt3080et31pbf/analog-devices?region=nac
footprint LT3080ET31PBF
pins: 1 NC, 2 SET, 3 OUT, 4 VCONTROL, 5 IN

## LT3080ET#31PBF_1
designator U?
Adjustable 1.1A Single Resistor Low Dropout Regulator; Manufacturer_Name: Analog Devices; Manufacturer_Part_Number: LT3080ET#31PBF; Datasheet Link: https://www.analog.com/media/en/technical-documentation/data-sheets/3080fc.pdf; Height: 15.748mm; Mouser Part Number: 584-LT3080ET#31PBF; Mouser Price/Stock: https://www.mouser.co.uk/ProductDetail/Analog-Devices/LT3080ET31PBF?qs=hVkxg5c3xu%252BqtsodQH9qig%3D%3D; Arrow Part Number: LT3080ET#31PBF; Arrow Price/Stock: https://www.arrow.com/en/products/lt3080et31pbf/analog-devices?region=nac; ComponentLink1Description: Datasheet; ComponentLink1URL: https://www.analog.com/media/en/technical-documentation/data-sheets/lt3080.pdf
footprint LT3080ET31PBF
pins: 1 NC, 2 SET, 3 OUT, 4 VCONTROL, 5 IN

## LT3080IST#WPBF
designator IC?
Integrated Circuit; Manufacturer_Name: Analog Devices; Manufacturer_Part_Number: LT3080IST#WPBF; Datasheet Link: https://www.mouser.de/datasheet/2/609/lt3080-1888655.pdf; Height: 1.8mm; Mouser Part Number: 584-LT3080IST#WPBF; Mouser Price/Stock: https://www.mouser.co.uk/ProductDetail/Analog-Devices/LT3080ISTWPBF?qs=W%2FMpXkg%252BdQ7vFuMWXDd%2FAg%3D%3D; Arrow Part Number: LT3080IST#WPBF; Arrow Price/Stock: https://www.arrow.com/en/products/lt3080istwpbf/analog-devices?region=nac
footprint SOT230P700X180-4N
pins: 1 SET, 2 OUT_1, 3 IN, 4 OUT_2

## LT3080IST#WPBF_1
designator IC?
Integrated Circuit; Manufacturer_Name: Analog Devices; Manufacturer_Part_Number: LT3080IST#WPBF; Datasheet Link: https://www.mouser.de/datasheet/2/609/lt3080-1888655.pdf; Height: 1.8mm; Mouser Part Number: 584-LT3080IST#WPBF; Mouser Price/Stock: https://www.mouser.co.uk/ProductDetail/Analog-Devices/LT3080ISTWPBF?qs=W%2FMpXkg%252BdQ7vFuMWXDd%2FAg%3D%3D; Arrow Part Number: LT3080IST#WPBF; Arrow Price/Stock: https://www.arrow.com/en/products/lt3080istwpbf/analog-devices?region=nac
footprint SOT230P700X180-4N
pins: 1 SET, 2 OUT_1, 3 IN, 4 OUT_2

## LTC3649IFE#PBF
designator U?
60V, 4A Synchronous Step-Down Regulator with Rail-to-Rail Programmable Output; Manufacturer_Name: Analog Devices; Geometry.Height: 1.2mm; Manufacturer_Part_Number: LTC3649IFE#PBF; Mouser Part Number: 584-LTC3649IFE#PBF; Mouser Price/Stock: https://www.mouser.co.uk/ProductDetail/Analog-Devices/LTC3649IFEPBF?qs=oahfZPh6IALghjzowGYuFA%3D%3D; Arrow Part Number: LTC3649IFE#PBF; Arrow Price/Stock: https://www.arrow.com/en/products/ltc3649ifepbf/linear-technology; Datasheet Link: http://www.analog.com/media/en/technical-documentation/data-sheets/3649fb.pdf; Supplier 1: Digi-Key; Supplier Part Number 1: LTC3649IFE#PBF-ND; ComponentLink1Description: Datasheet; ComponentLink1URL: https://www.analog.com/media/en/technical-documentation/data-sheets/3649fb.pdf
footprint SOP65P640X120-29N
footprint Model Name (Footprint not found)
pins: 1 PGND_1, 2 PGND_2, 3 PGND_3, 4 PGND_4, 5 PGND_5, 6 VIN_1, 7 VIN_2, 8 RUN, 9 SGND_1, 10 MODE/SYNC, 11 PGOOD, 12 PGDFB, 13 IMON, 14 VINREG, 15 RT, 16 VOUT, 17 ISET, 18 ITH, 19 EXTVCC, 20 INTVCC, 21 BOOST, 22 SW_1, 23 SW_2, 24 SW_3, 25 SW_4, 26 SW_5, 27 SW_6, 28 SW_7, 29 SGND_2

## LTC3649IFE#PBF_1
designator IC?
Integrated Circuit; Manufacturer_Name: Analog Devices; Manufacturer_Part_Number: LTC3649IFE#PBF; Datasheet Link: http://www.analog.com/media/en/technical-documentation/data-sheets/3649fb.pdf; Height: 1.2mm; Mouser Part Number: 584-LTC3649IFE#PBF; Mouser Price/Stock: https://www.mouser.co.uk/ProductDetail/Analog-Devices/LTC3649IFEPBF?qs=oahfZPh6IALghjzowGYuFA%3D%3D; Arrow Part Number: LTC3649IFE#PBF; Arrow Price/Stock: https://www.arrow.com/en/products/ltc3649ifepbf/linear-technology
footprint SOP65P640X120-29N
pins: 1 PGND_1, 2 PGND_2, 3 PGND_3, 4 PGND_4, 5 PGND_5, 6 VIN_1, 7 VIN_2, 8 RUN, 9 SGND_1, 10 MODE/SYNC, 11 PGOOD, 12 PGDFB, 13 IMON, 14 VINREG, 15 RT, 16 VOUT, 17 ISET, 18 ITH, 19 EXTVCC, 20 INTVCC, 21 BOOST, 22 SW_1, 23 SW_2, 24 SW_3, 25 SW_4, 26 SW_5, 27 SW_6, 28 SW_7, 29 SGND_2

## LTC3649IFE#PBF_2
designator IC?
Integrated Circuit; Manufacturer_Name: Analog Devices; Manufacturer_Part_Number: LTC3649IFE#PBF; Datasheet Link: http://www.analog.com/media/en/technical-documentation/data-sheets/3649fb.pdf; Height: 1.2mm; Mouser Part Number: 584-LTC3649IFE#PBF; Mouser Price/Stock: https://www.mouser.co.uk/ProductDetail/Analog-Devices/LTC3649IFEPBF?qs=oahfZPh6IALghjzowGYuFA%3D%3D; Arrow Part Number: LTC3649IFE#PBF; Arrow Price/Stock: https://www.arrow.com/en/products/ltc3649ifepbf/linear-technology
footprint SOP65P640X120-29N
pins: 1 PGND_1, 2 PGND_2, 3 PGND_3, 4 PGND_4, 5 PGND_5, 6 VIN_1, 7 VIN_2, 8 RUN, 9 SGND_1, 10 MODE/SYNC, 11 PGOOD, 12 PGDFB, 13 IMON, 14 VINREG, 15 RT, 16 VOUT, 17 ISET, 18 ITH, 19 EXTVCC, 20 INTVCC, 21 BOOST, 22 SW_1, 23 SW_2, 24 SW_3, 25 SW_4, 26 SW_5, 27 SW_6, 28 SW_7, 29 SGND_2

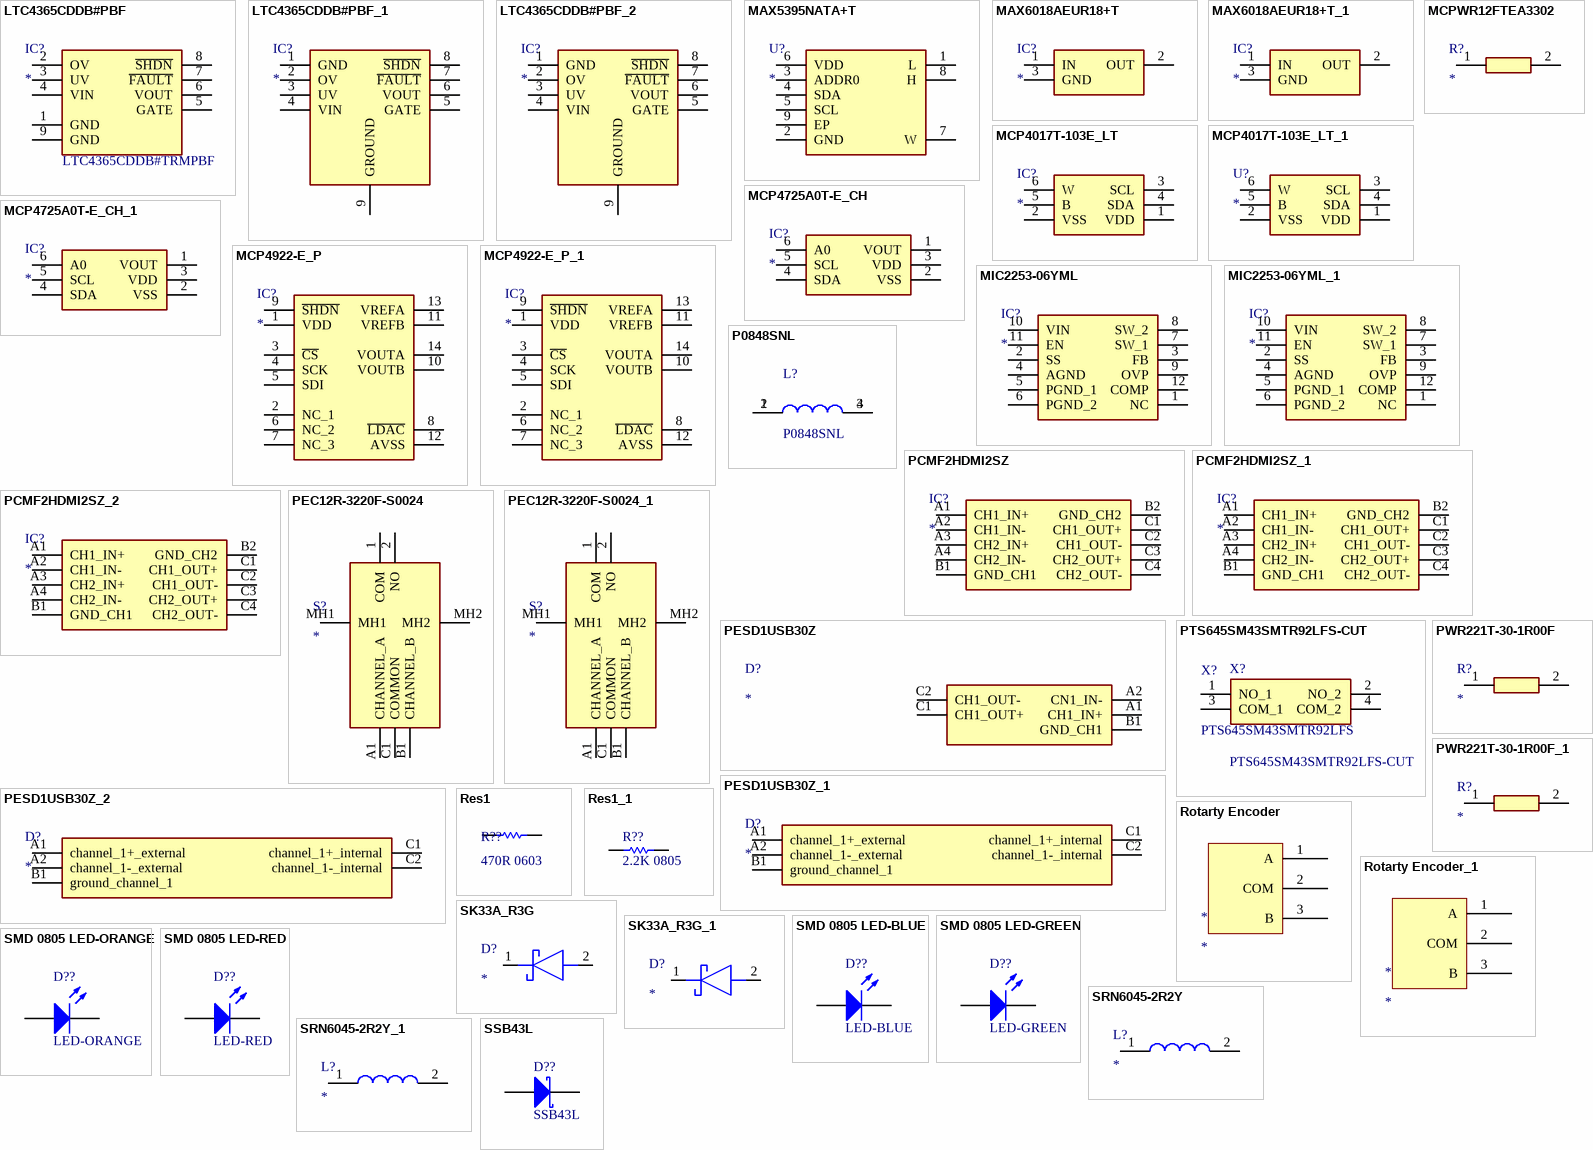
[diagram p2: symbols LTC4365CDDB#PBF to SSB43L]

## LTC4365CDDB#PBF
designator IC?
Integrated Circuit; Manufacturer_Name: Analog Devices; Manufacturer_Part_Number: LTC4365CDDB#PBF; Datasheet Link: http://cds.linear.com/docs/en/datasheet/4365fa.pdf; Height: 0.8mm; Mouser Part Number: 584-LTC4365CDDB#PBF; Mouser Price/Stock: https://www.mouser.com/Search/Refine.aspx?Keyword=584-LTC4365CDDB%23PBF
footprint SON50P200X300X80-9N-D
pins: 1 GND, 2 OV, 3 UV, 4 VIN, 5 GATE, 6 VOUT, 7 ~{FAULT}, 8 ~{SHDN}, 9 GND
text: LTC4365CDDB#TRMPBF

## LTC4365CDDB#PBF_1
designator IC?
Integrated Circuit; Manufacturer_Name: Analog Devices; Manufacturer_Part_Number: LTC4365CDDB#PBF; Datasheet Link: http://cds.linear.com/docs/en/datasheet/4365fa.pdf; Height: 0.8mm; Mouser Part Number: 584-LTC4365CDDB#PBF; Mouser Price/Stock: https://www.mouser.com/Search/Refine.aspx?Keyword=584-LTC4365CDDB%23PBF
footprint SON50P200X300X80-9N-D
pins: 1 GND, 2 OV, 3 UV, 4 VIN, 5 GATE, 6 VOUT, 7 ~{FAULT}, 8 ~{SHDN}, 9 GROUND

## LTC4365CDDB#PBF_2
designator IC?
Integrated Circuit; Manufacturer_Name: Analog Devices; Manufacturer_Part_Number: LTC4365CDDB#PBF; Datasheet Link: http://cds.linear.com/docs/en/datasheet/4365fa.pdf; Height: 0.8mm; Mouser Part Number: 584-LTC4365CDDB#PBF; Mouser Price/Stock: https://www.mouser.com/Search/Refine.aspx?Keyword=584-LTC4365CDDB%23PBF
footprint SON50P200X300X80-9N-D
pins: 1 GND, 2 OV, 3 UV, 4 VIN, 5 GATE, 6 VOUT, 7 ~{FAULT}, 8 ~{SHDN}, 9 GROUND

## MAX5395NATA+T
designator U?
ingle, 256-Tap Volatile, I2C, Low-Voltage Linear / Taper Digital Potentiometer; Manufacturer_Name: Analog Devices; Manufacturer_Part_Number: MAX5395NATA+T; Datasheet Link: https://datasheets.maximintegrated.com/en/ds/MAX5395.pdf; Height: 0.8mm; Mouser Part Number: 700-MAX5395NATA+T; Mouser Price/Stock: https://www.mouser.co.uk/ProductDetail/Analog-Devices-Maxim-Integrated/MAX5395NATA%2bT?qs=0JU57JYmZjt6U4d8%252BEwekw%3D%3D; ComponentLink1Description: Datasheet; ComponentLink1URL: https://www.farnell.com/datasheets/2297485.pdf
footprint SON50P200X200X80-9N-D
pins: 1 L, 2 GND, 3 ADDR0, 4 SDA, 5 SCL, 6 VDD, 7 W, 8 H, 9 EP

## MAX6018AEUR18+T
designator IC?
Integrated Circuit; Manufacturer_Name: Analog Devices; Manufacturer_Part_Number: MAX6018AEUR18+T; Datasheet Link: https://datasheets.maximintegrated.com/en/ds/MAX6018-MAX6018B.pdf; Height: 1.12mm; Mouser Part Number: 700-MAX6018AEUR18T; Mouser Price/Stock: https://www.mouser.co.uk/ProductDetail/Maxim-Integrated/MAX6018AEUR18%2bT?qs=GxOUx7aO6nxTHpj7gtPQaw%3D%3D
footprint SOT95P237X112-3N
pins: 1 IN, 2 OUT, 3 GND

## MAX6018AEUR18+T_1
designator IC?
Integrated Circuit; Manufacturer_Name: Analog Devices; Manufacturer_Part_Number: MAX6018AEUR18+T; Datasheet Link: https://datasheets.maximintegrated.com/en/ds/MAX6018-MAX6018B.pdf; Height: 1.12mm; Mouser Part Number: 700-MAX6018AEUR18T; Mouser Price/Stock: https://www.mouser.co.uk/ProductDetail/Maxim-Integrated/MAX6018AEUR18%2bT?qs=GxOUx7aO6nxTHpj7gtPQaw%3D%3D
footprint SOT95P237X112-3N
pins: 1 IN, 2 OUT, 3 GND

## MCP4017T-103E_LT
designator IC?
Integrated Circuit; Manufacturer_Name: Microchip; Manufacturer_Part_Number: MCP4017T-103E/LT; Datasheet Link: https://datasheet.datasheetarchive.com/originals/distributors/Datasheets-DGA14/624353.pdf; Height: 1.1mm; Mouser Part Number: 579-MCP4017T103E/LT; Mouser Price/Stock: https://www.mouser.co.uk/ProductDetail/Microchip-Technology/MCP4017T-103E-LT?qs=%2FsslhGPpiOQYx8130JNsXw%3D%3D; Arrow Part Number: MCP4017T-103E/LT; Arrow Price/Stock: https://www.arrow.com/en/products/mcp4017t-103elt/microchip-technology?region=nac
footprint SOT65P210X110-6N
pins: 1 VDD, 2 VSS, 3 SCL, 4 SDA, 5 B, 6 W

## MCP4017T-103E_LT_1
designator U?
7-Bit Single I2CTM Digital POT with Volatile Memory; Manufacturer_Name: Microchip; Manufacturer_Part_Number: MCP4017T-103E/LT; Datasheet Link: https://datasheet.datasheetarchive.com/originals/distributors/Datasheets-DGA14/624353.pdf; Height: 1.1mm; Mouser Part Number: 579-MCP4017T103E/LT; Mouser Price/Stock: https://www.mouser.co.uk/ProductDetail/Microchip-Technology/MCP4017T-103E-LT?qs=%2FsslhGPpiOQYx8130JNsXw%3D%3D; Arrow Part Number: MCP4017T-103E/LT; Arrow Price/Stock: https://www.arrow.com/en/products/mcp4017t-103elt/microchip-technology?region=nac; ComponentLink1Description: Datasheet; ComponentLink1URL: http://ww1.microchip.com/downloads/jp/DeviceDoc/jp540631.pdf
footprint SOT65P210X110-6N
pins: 1 VDD, 2 VSS, 3 SCL, 4 SDA, 5 B, 6 W

## MCP4725A0T-E_CH
designator IC?
Integrated Circuit; Manufacturer_Name: Microchip; Manufacturer_Part_Number: MCP4725A0T-E/CH; Datasheet Link: http://ww1.microchip.com/downloads/en/DeviceDoc/22039d.pdf; Height: 1.45mm; Mouser Part Number: 579-MCP4725A0TECH; Mouser Price/Stock: https://www.mouser.co.uk/ProductDetail/Microchip-Technology/MCP4725A0T-E-CH?qs=vkMqrgFpRajeQECZ3goc0A%3D%3D; Arrow Part Number: MCP4725A0T-E/CH; Arrow Price/Stock: https://www.arrow.com/en/products/mcp4725a0t-ech/microchip-technology?region=nac
footprint SOT95P270X145-6N
pins: 1 VOUT, 2 VSS, 3 VDD, 4 SDA, 5 SCL, 6 A0

## MCP4725A0T-E_CH_1
designator IC?
Integrated Circuit; Manufacturer_Name: Microchip; Manufacturer_Part_Number: MCP4725A0T-E/CH; Datasheet Link: http://ww1.microchip.com/downloads/en/DeviceDoc/22039d.pdf; Height: 1.45mm; Mouser Part Number: 579-MCP4725A0TECH; Mouser Price/Stock: https://www.mouser.co.uk/ProductDetail/Microchip-Technology/MCP4725A0T-E-CH?qs=vkMqrgFpRajeQECZ3goc0A%3D%3D; Arrow Part Number: MCP4725A0T-E/CH; Arrow Price/Stock: https://www.arrow.com/en/products/mcp4725a0t-ech/microchip-technology?region=nac
footprint SOT95P270X145-6N
pins: 1 VOUT, 2 VSS, 3 VDD, 4 SDA, 5 SCL, 6 A0

## MCP4922-E_P
designator IC?
Integrated Circuit; Manufacturer_Name: Microchip; Manufacturer_Part_Number: MCP4922-E/P; Datasheet Link: http://componentsearchengine.com/Datasheets/3/MCP4922-E_P.pdf; Height: 4.32mm; Mouser Part Number: 579-MCP4922-E/P; Mouser Price/Stock: https://www.mouser.co.uk/ProductDetail/Microchip-Technology/MCP4922-E-P?qs=0R2K%2FH4DmMMzbkgef7lO6A%3D%3D; Arrow Part Number: MCP4922-E/P; Arrow Price/Stock: https://www.arrow.com/en/products/mcp4922-ep/microchip-technology?region=nac
footprint DIP794W56P254L1905H432Q14N
pins: 1 VDD, 2 NC_1, 3 ~{CS}, 4 SCK, 5 SDI, 6 NC_2, 7 NC_3, 8 ~{LDAC}, 9 ~{SHDN}, 10 VOUTB, 11 VREFB, 12 AVSS, 13 VREFA, 14 VOUTA

## MCP4922-E_P_1
designator IC?
Integrated Circuit; Manufacturer_Name: Microchip; Manufacturer_Part_Number: MCP4922-E/P; Datasheet Link: http://componentsearchengine.com/Datasheets/3/MCP4922-E_P.pdf; Height: 4.32mm; Mouser Part Number: 579-MCP4922-E/P; Mouser Price/Stock: https://www.mouser.co.uk/ProductDetail/Microchip-Technology/MCP4922-E-P?qs=0R2K%2FH4DmMMzbkgef7lO6A%3D%3D; Arrow Part Number: MCP4922-E/P; Arrow Price/Stock: https://www.arrow.com/en/products/mcp4922-ep/microchip-technology?region=nac
footprint DIP794W56P254L1905H432Q14N
pins: 1 VDD, 2 NC_1, 3 ~{CS}, 4 SCK, 5 SDI, 6 NC_2, 7 NC_3, 8 ~{LDAC}, 9 ~{SHDN}, 10 VOUTB, 11 VREFB, 12 AVSS, 13 VREFA, 14 VOUTA

## MCPWR12FTEA3302
designator R?
Resistor; Manufacturer_Name: Multicomp Pro; Manufacturer_Part_Number: MCPWR12FTEA3302; Description: RESISTOR
footprint RESC6332X71N
pins: 1 R1, 2 R2